# EAGLE library part STM32F042C*T (library micro-stm_v2)
ARM®-based 32-bit MCU, up to 32 KB Flash, crystal-less USB FS 2.0, CAN, 9 timers, ADC & comm. interfaces, 2.0 - 3.6 V
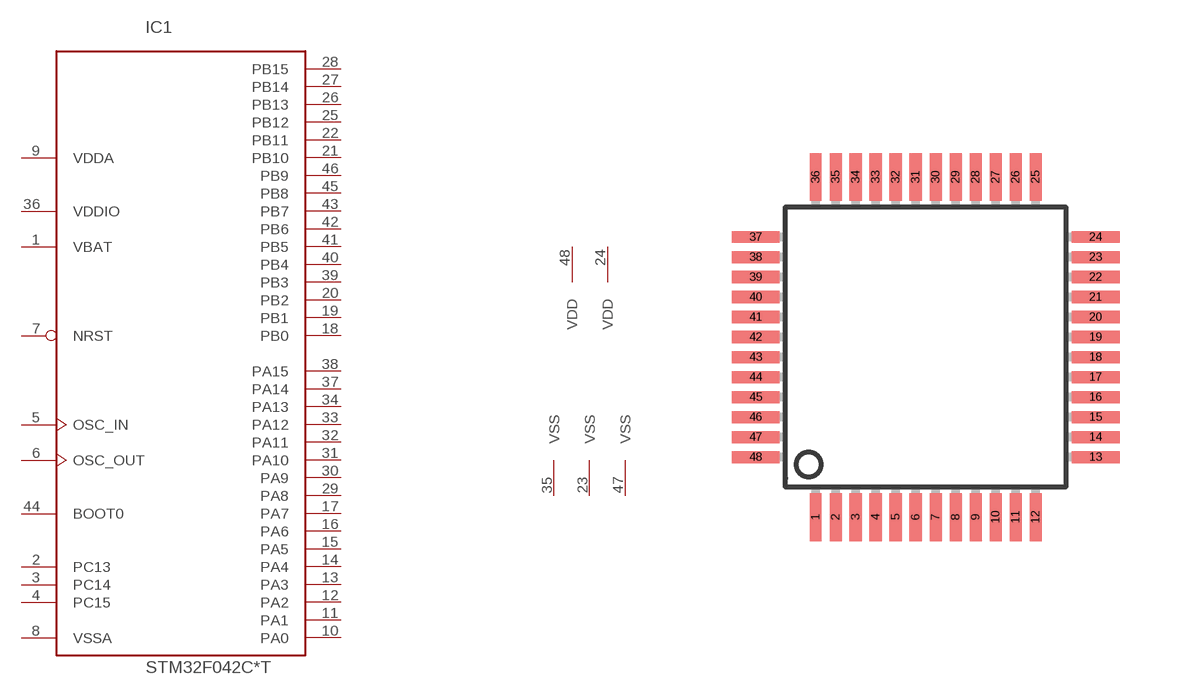
[diagram p164: symbol with the pads of LQFP48; footprint LQFP48]

Designator prefix IC; gates 1=STM32_48PIN_TYP12 2=PWR_VDD2_VSS3

## STM32F042CT (OC_DIGIKEY: 497-14648-ND; OC_MOUSER: 511-STM32F042C6T6)  [LQFP48]
1  1:VBAT  pwr
2  1:PC13
3  1:PC14
4  1:PC15
5  1:OSC_IN
6  1:OSC_OUT
7  1:NRST
8  1:VSSA  pas
9  1:VDDA  pwr
10  1:PA0
11  1:PA1
12  1:PA2
13  1:PA3
14  1:PA4
15  1:PA5
16  1:PA6
17  1:PA7
18  1:PB0
19  1:PB1
20  1:PB2
21  1:PB10
22  1:PB11
23  2:VSS  pwr
24  2:VDD  pwr
25  1:PB12
26  1:PB13
27  1:PB14
28  1:PB15
29  1:PA8
30  1:PA9
31  1:PA10
32  1:PA11
33  1:PA12
34  1:PA13
35  2:VSS  pwr
36  1:VDDIO  pwr
37  1:PA14
38  1:PA15
39  1:PB3
40  1:PB4
41  1:PB5
42  1:PB6
43  1:PB7
44  1:BOOT0  in
45  1:PB8
46  1:PB9
47  2:VSS  pwr
48  2:VDD  pwr

## Footprint LQFP48 (pad centres in mm)
LQFP48 7 x 7 mm, 48-pin low-profile quad flat package
smd 0.3 x 1.2: 1 -2.75,-4.25; 2 -2.25,-4.25; 3 -1.75,-4.25; 4 -1.25,-4.25; 5 -0.75,-4.25; 6 -0.25,-4.25; 7 0.25,-4.25; 8 0.75,-4.25; 9 1.25,-4.25; 10 1.75,-4.25; 11 2.25,-4.25; 12 2.75,-4.25; 25 2.75,4.25; 26 2.25,4.25; 27 1.75,4.25; 28 1.25,4.25; 29 0.75,4.25; 30 0.25,4.25; 31 -0.25,4.25; 32 -0.75,4.25; 33 -1.25,4.25; 34 -1.75,4.25; 35 -2.25,4.25; 36 -2.75,4.25
smd 1.2 x 0.3: 13 4.25,-2.75; 14 4.25,-2.25; 15 4.25,-1.75; 16 4.25,-1.25; 17 4.25,-0.75; 18 4.25,-0.25; 19 4.25,0.25; 20 4.25,0.75; 21 4.25,1.25; 22 4.25,1.75; 23 4.25,2.25; 24 4.25,2.75; 37 -4.25,2.75; 38 -4.25,2.25; 39 -4.25,1.75; 40 -4.25,1.25; 41 -4.25,0.75; 42 -4.25,0.25; 43 -4.25,-0.25; 44 -4.25,-0.75; 45 -4.25,-1.25; 46 -4.25,-1.75; 47 -4.25,-2.25; 48 -4.25,-2.75